# Altium integrated library Microchip Power Mgt Line Regulator.IntLib: 1066 symbols (part 24 of 26)
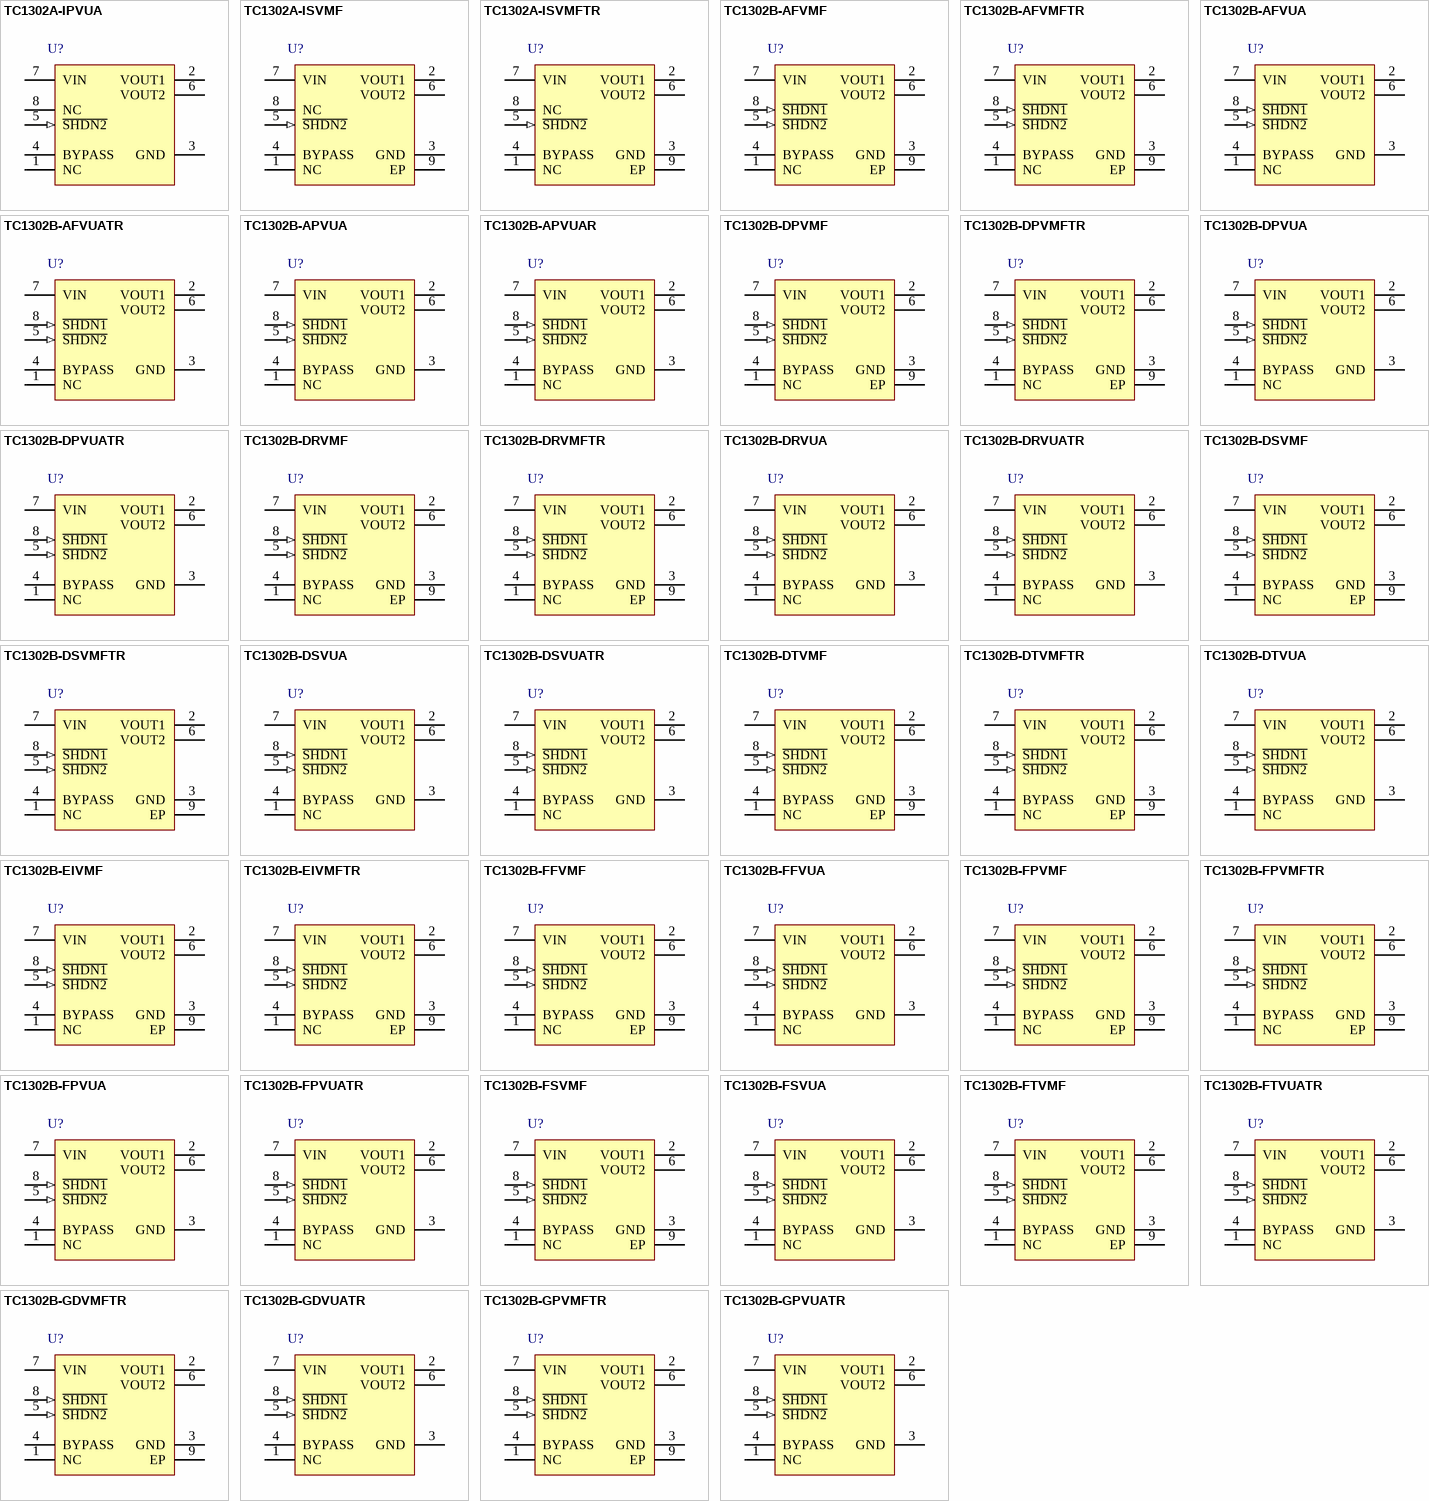
[diagram p49: symbols TC1302A-IPVUA to TC1302B-GPVUATR]

## TC1302B-DRVMFTR
designator U?
Low Quiescent Current Dual Output LDO, 8-Pin DFN, Extended Temperature, Tape and Reel; Published: 29-Jan-2009; DatasheetVersion: revB, Jan-2005; PackageVersion: revBB, Aug-2009; PackageReference: DFN-MF8; Publisher: Altium Limited; PackageDescription: 8-Lead Plastic Dual Flat, No Lead Package (MF) - 3x3x0.9mm Body [DFN]; ComponentLink1Description: Datasheet; ComponentLink1URL: http://ww1.microchip.com/downloads/en/DeviceDoc/21333b.pdf; ComponentLink2Description: Packaging Specification; ComponentLink2URL: http://www.microchip.com/stellent/groups/techpub_sg/documents/packagingspec/en012702.pdf; ComponentLink3Description: Microchip.com Home; ComponentLink3URL: http://www.microchip.com/
footprint DFN-MF8 (SON, 8-Leads, Body 3x3mm, Pitch 0.65mm, Microchip Recommended)
pins: 1 NC, 2 VOUT1 (power), 3 GND (power), 4 BYPASS, 5 ~{SHDN2} (in), 6 VOUT2 (power), 7 VIN (power), 8 ~{SHDN1} (in), 9 EP (power)

## TC1302B-DRVUA
designator U?
Low Quiescent Current Dual Output LDO, 8-Pin MSOP, Extended Temperature; Published: 29-Jan-2009; DatasheetVersion: revB, Jan-2005; PackageVersion: revBB, Aug-2009; PackageReference: MSOP-UA8; Publisher: Altium Limited; PackageDescription: 8-Lead Plastic Micro Small Outline Package (UA) [MSOP]; Code_JEDEC: MO-187-AA; ComponentLink1Description: Datasheet; ComponentLink1URL: http://ww1.microchip.com/downloads/en/DeviceDoc/21333b.pdf; ComponentLink2Description: Packaging Specification; ComponentLink2URL: http://www.microchip.com/stellent/groups/techpub_sg/documents/packagingspec/en012702.pdf; ComponentLink3Description: Microchip.com Home; ComponentLink3URL: http://www.microchip.com/
footprint MSOP-UA8_N (TSOP, 8-Leads, Body 3x3mm, Pitch 0.65mm, IPC Medium Density)
footprint MSOP-UA8_L (TSOP, 8-Leads, Body 3x3mm, Pitch 0.65mm, IPC High Density)
footprint MSOP-UA8_M (TSOP, 8-Leads, Body 3x3mm, Pitch 0.65mm, IPC Low Density)
pins: 1 NC, 2 VOUT1 (power), 3 GND (power), 4 BYPASS, 5 ~{SHDN2} (in), 6 VOUT2 (power), 7 VIN (power), 8 ~{SHDN1} (in)

## TC1302B-DRVUATR
designator U?
Low Quiescent Current Dual Output LDO, 8-Pin MSOP, Extended Temperature, Tape and Reel; Published: 29-Jan-2009; DatasheetVersion: revB, Jan-2005; PackageVersion: revBB, Aug-2009; PackageReference: MSOP-UA8; Publisher: Altium Limited; PackageDescription: 8-Lead Plastic Micro Small Outline Package (UA) [MSOP]; Code_JEDEC: MO-187-AA; ComponentLink1Description: Datasheet; ComponentLink1URL: http://ww1.microchip.com/downloads/en/DeviceDoc/21333b.pdf; ComponentLink2Description: Packaging Specification; ComponentLink2URL: http://www.microchip.com/stellent/groups/techpub_sg/documents/packagingspec/en012702.pdf; ComponentLink3Description: Microchip.com Home; ComponentLink3URL: http://www.microchip.com/
footprint MSOP-UA8_N (TSOP, 8-Leads, Body 3x3mm, Pitch 0.65mm, IPC Medium Density)
footprint MSOP-UA8_L (TSOP, 8-Leads, Body 3x3mm, Pitch 0.65mm, IPC High Density)
footprint MSOP-UA8_M (TSOP, 8-Leads, Body 3x3mm, Pitch 0.65mm, IPC Low Density)
pins: 1 NC, 2 VOUT1 (power), 3 GND (power), 4 BYPASS, 5 ~{SHDN2} (in), 6 VOUT2 (power), 7 VIN (power), 8 ~{SHDN1} (in)

## TC1302B-DSVMF
designator U?
Low Quiescent Current Dual Output LDO, 8-Pin DFN, Extended Temperature; Published: 29-Jan-2009; DatasheetVersion: revB, Jan-2005; PackageVersion: revBB, Aug-2009; PackageReference: DFN-MF8; Publisher: Altium Limited; PackageDescription: 8-Lead Plastic Dual Flat, No Lead Package (MF) - 3x3x0.9mm Body [DFN]; ComponentLink1Description: Datasheet; ComponentLink1URL: http://ww1.microchip.com/downloads/en/DeviceDoc/21333b.pdf; ComponentLink2Description: Packaging Specification; ComponentLink2URL: http://www.microchip.com/stellent/groups/techpub_sg/documents/packagingspec/en012702.pdf; ComponentLink3Description: Microchip.com Home; ComponentLink3URL: http://www.microchip.com/
footprint DFN-MF8 (SON, 8-Leads, Body 3x3mm, Pitch 0.65mm, Microchip Recommended)
pins: 1 NC, 2 VOUT1 (power), 3 GND (power), 4 BYPASS, 5 ~{SHDN2} (in), 6 VOUT2 (power), 7 VIN (power), 8 ~{SHDN1} (in), 9 EP (power)

## TC1302B-DSVMFTR
designator U?
Low Quiescent Current Dual Output LDO, 8-Pin DFN, Extended Temperature, Tape and Reel; Published: 29-Jan-2009; DatasheetVersion: revB, Jan-2005; PackageVersion: revBB, Aug-2009; PackageReference: DFN-MF8; Publisher: Altium Limited; PackageDescription: 8-Lead Plastic Dual Flat, No Lead Package (MF) - 3x3x0.9mm Body [DFN]; ComponentLink1Description: Datasheet; ComponentLink1URL: http://ww1.microchip.com/downloads/en/DeviceDoc/21333b.pdf; ComponentLink2Description: Packaging Specification; ComponentLink2URL: http://www.microchip.com/stellent/groups/techpub_sg/documents/packagingspec/en012702.pdf; ComponentLink3Description: Microchip.com Home; ComponentLink3URL: http://www.microchip.com/
footprint DFN-MF8 (SON, 8-Leads, Body 3x3mm, Pitch 0.65mm, Microchip Recommended)
pins: 1 NC, 2 VOUT1 (power), 3 GND (power), 4 BYPASS, 5 ~{SHDN2} (in), 6 VOUT2 (power), 7 VIN (power), 8 ~{SHDN1} (in), 9 EP (power)

## TC1302B-DSVUA
designator U?
Low Quiescent Current Dual Output LDO, 8-Pin MSOP, Extended Temperature; Published: 29-Jan-2009; DatasheetVersion: revB, Jan-2005; PackageVersion: revBB, Aug-2009; PackageReference: MSOP-UA8; Publisher: Altium Limited; PackageDescription: 8-Lead Plastic Micro Small Outline Package (UA) [MSOP]; Code_JEDEC: MO-187-AA; ComponentLink1Description: Datasheet; ComponentLink1URL: http://ww1.microchip.com/downloads/en/DeviceDoc/21333b.pdf; ComponentLink2Description: Packaging Specification; ComponentLink2URL: http://www.microchip.com/stellent/groups/techpub_sg/documents/packagingspec/en012702.pdf; ComponentLink3Description: Microchip.com Home; ComponentLink3URL: http://www.microchip.com/
footprint MSOP-UA8_N (TSOP, 8-Leads, Body 3x3mm, Pitch 0.65mm, IPC Medium Density)
footprint MSOP-UA8_L (TSOP, 8-Leads, Body 3x3mm, Pitch 0.65mm, IPC High Density)
footprint MSOP-UA8_M (TSOP, 8-Leads, Body 3x3mm, Pitch 0.65mm, IPC Low Density)
pins: 1 NC, 2 VOUT1 (power), 3 GND (power), 4 BYPASS, 5 ~{SHDN2} (in), 6 VOUT2 (power), 7 VIN (power), 8 ~{SHDN1} (in)

## TC1302B-DSVUATR
designator U?
Low Quiescent Current Dual Output LDO, 8-Pin MSOP, Extended Temperature, Tape and Reel; Published: 29-Jan-2009; DatasheetVersion: revB, Jan-2005; PackageVersion: revBB, Aug-2009; PackageReference: MSOP-UA8; Publisher: Altium Limited; PackageDescription: 8-Lead Plastic Micro Small Outline Package (UA) [MSOP]; Code_JEDEC: MO-187-AA; ComponentLink1Description: Datasheet; ComponentLink1URL: http://ww1.microchip.com/downloads/en/DeviceDoc/21333b.pdf; ComponentLink2Description: Packaging Specification; ComponentLink2URL: http://www.microchip.com/stellent/groups/techpub_sg/documents/packagingspec/en012702.pdf; ComponentLink3Description: Microchip.com Home; ComponentLink3URL: http://www.microchip.com/
footprint MSOP-UA8_N (TSOP, 8-Leads, Body 3x3mm, Pitch 0.65mm, IPC Medium Density)
footprint MSOP-UA8_L (TSOP, 8-Leads, Body 3x3mm, Pitch 0.65mm, IPC High Density)
footprint MSOP-UA8_M (TSOP, 8-Leads, Body 3x3mm, Pitch 0.65mm, IPC Low Density)
pins: 1 NC, 2 VOUT1 (power), 3 GND (power), 4 BYPASS, 5 ~{SHDN2} (in), 6 VOUT2 (power), 7 VIN (power), 8 ~{SHDN1} (in)

## TC1302B-DTVMF
designator U?
Low Quiescent Current Dual Output LDO, 8-Pin DFN, Extended Temperature; Published: 29-Jan-2009; DatasheetVersion: revB, Jan-2005; PackageVersion: revBB, Aug-2009; PackageReference: DFN-MF8; Publisher: Altium Limited; PackageDescription: 8-Lead Plastic Dual Flat, No Lead Package (MF) - 3x3x0.9mm Body [DFN]; Supplier 1: Digi-Key; Supplier Part Number 1: TC1302B-DTVMF-ND; ComponentLink1Description: Datasheet; ComponentLink1URL: http://ww1.microchip.com/downloads/en/DeviceDoc/21333b.pdf; ComponentLink2Description: Packaging Specification; ComponentLink2URL: http://www.microchip.com/stellent/groups/techpub_sg/documents/packagingspec/en012702.pdf; ComponentLink3Description: Microchip.com Home; ComponentLink3URL: http://www.microchip.com/
footprint DFN-MF8 (SON, 8-Leads, Body 3x3mm, Pitch 0.65mm, Microchip Recommended)
pins: 1 NC, 2 VOUT1 (power), 3 GND (power), 4 BYPASS, 5 ~{SHDN2} (in), 6 VOUT2 (power), 7 VIN (power), 8 ~{SHDN1} (in), 9 EP (power)

## TC1302B-DTVMFTR
designator U?
Low Quiescent Current Dual Output LDO, 8-Pin DFN, Extended Temperature, Tape and Reel; Published: 29-Jan-2009; DatasheetVersion: revB, Jan-2005; PackageVersion: revBB, Aug-2009; PackageReference: DFN-MF8; Publisher: Altium Limited; PackageDescription: 8-Lead Plastic Dual Flat, No Lead Package (MF) - 3x3x0.9mm Body [DFN]; Supplier 1: Digi-Key; Supplier Part Number 1: TC1302B-DTVMFTR-ND; ComponentLink1Description: Datasheet; ComponentLink1URL: http://ww1.microchip.com/downloads/en/DeviceDoc/21333b.pdf; ComponentLink2Description: Packaging Specification; ComponentLink2URL: http://www.microchip.com/stellent/groups/techpub_sg/documents/packagingspec/en012702.pdf; ComponentLink3Description: Microchip.com Home; ComponentLink3URL: http://www.microchip.com/
footprint DFN-MF8 (SON, 8-Leads, Body 3x3mm, Pitch 0.65mm, Microchip Recommended)
pins: 1 NC, 2 VOUT1 (power), 3 GND (power), 4 BYPASS, 5 ~{SHDN2} (in), 6 VOUT2 (power), 7 VIN (power), 8 ~{SHDN1} (in), 9 EP (power)

## TC1302B-DTVUA
designator U?
Low Quiescent Current Dual Output LDO, 8-Pin MSOP, Extended Temperature; Published: 29-Jan-2009; DatasheetVersion: revB, Jan-2005; PackageVersion: revBB, Aug-2009; PackageReference: MSOP-UA8; Publisher: Altium Limited; PackageDescription: 8-Lead Plastic Micro Small Outline Package (UA) [MSOP]; Supplier 1: Digi-Key; Supplier Part Number 1: TC1302B-DTVUA-ND; Code_JEDEC: MO-187-AA; ComponentLink1Description: Datasheet; ComponentLink1URL: http://ww1.microchip.com/downloads/en/DeviceDoc/21333b.pdf; ComponentLink2Description: Packaging Specification; ComponentLink2URL: http://www.microchip.com/stellent/groups/techpub_sg/documents/packagingspec/en012702.pdf; ComponentLink3Description: Microchip.com Home; ComponentLink3URL: http://www.microchip.com/
footprint MSOP-UA8_N (TSOP, 8-Leads, Body 3x3mm, Pitch 0.65mm, IPC Medium Density)
footprint MSOP-UA8_L (TSOP, 8-Leads, Body 3x3mm, Pitch 0.65mm, IPC High Density)
footprint MSOP-UA8_M (TSOP, 8-Leads, Body 3x3mm, Pitch 0.65mm, IPC Low Density)
pins: 1 NC, 2 VOUT1 (power), 3 GND (power), 4 BYPASS, 5 ~{SHDN2} (in), 6 VOUT2 (power), 7 VIN (power), 8 ~{SHDN1} (in)

## TC1302B-EIVMF
designator U?
Low Quiescent Current Dual Output LDO, 8-Pin DFN, Extended Temperature; Published: 29-Jan-2009; DatasheetVersion: revB, Jan-2005; PackageVersion: revBB, Aug-2009; PackageReference: DFN-MF8; Publisher: Altium Limited; PackageDescription: 8-Lead Plastic Dual Flat, No Lead Package (MF) - 3x3x0.9mm Body [DFN]; ComponentLink1Description: Datasheet; ComponentLink1URL: http://ww1.microchip.com/downloads/en/DeviceDoc/21333b.pdf; ComponentLink2Description: Packaging Specification; ComponentLink2URL: http://www.microchip.com/stellent/groups/techpub_sg/documents/packagingspec/en012702.pdf; ComponentLink3Description: Microchip.com Home; ComponentLink3URL: http://www.microchip.com/
footprint DFN-MF8 (SON, 8-Leads, Body 3x3mm, Pitch 0.65mm, Microchip Recommended)
pins: 1 NC, 2 VOUT1 (power), 3 GND (power), 4 BYPASS, 5 ~{SHDN2} (in), 6 VOUT2 (power), 7 VIN (power), 8 ~{SHDN1} (in), 9 EP (power)

## TC1302B-EIVMFTR
designator U?
Low Quiescent Current Dual Output LDO, 8-Pin DFN, Extended Temperature, Tape and Reel; Published: 29-Jan-2009; DatasheetVersion: revB, Jan-2005; PackageVersion: revBB, Aug-2009; PackageReference: DFN-MF8; Publisher: Altium Limited; PackageDescription: 8-Lead Plastic Dual Flat, No Lead Package (MF) - 3x3x0.9mm Body [DFN]; ComponentLink1Description: Datasheet; ComponentLink1URL: http://ww1.microchip.com/downloads/en/DeviceDoc/21333b.pdf; ComponentLink2Description: Packaging Specification; ComponentLink2URL: http://www.microchip.com/stellent/groups/techpub_sg/documents/packagingspec/en012702.pdf; ComponentLink3Description: Microchip.com Home; ComponentLink3URL: http://www.microchip.com/
footprint DFN-MF8 (SON, 8-Leads, Body 3x3mm, Pitch 0.65mm, Microchip Recommended)
pins: 1 NC, 2 VOUT1 (power), 3 GND (power), 4 BYPASS, 5 ~{SHDN2} (in), 6 VOUT2 (power), 7 VIN (power), 8 ~{SHDN1} (in), 9 EP (power)

## TC1302B-FFVMF
designator U?
Low Quiescent Current Dual Output LDO, 8-Pin DFN, Extended Temperature; Published: 29-Jan-2009; DatasheetVersion: revB, Jan-2005; PackageVersion: revBB, Aug-2009; PackageReference: DFN-MF8; Publisher: Altium Limited; PackageDescription: 8-Lead Plastic Dual Flat, No Lead Package (MF) - 3x3x0.9mm Body [DFN]; ComponentLink1Description: Datasheet; ComponentLink1URL: http://ww1.microchip.com/downloads/en/DeviceDoc/21333b.pdf; ComponentLink2Description: Packaging Specification; ComponentLink2URL: http://www.microchip.com/stellent/groups/techpub_sg/documents/packagingspec/en012702.pdf; ComponentLink3Description: Microchip.com Home; ComponentLink3URL: http://www.microchip.com/
footprint DFN-MF8 (SON, 8-Leads, Body 3x3mm, Pitch 0.65mm, Microchip Recommended)
pins: 1 NC, 2 VOUT1 (power), 3 GND (power), 4 BYPASS, 5 ~{SHDN2} (in), 6 VOUT2 (power), 7 VIN (power), 8 ~{SHDN1} (in), 9 EP (power)

## TC1302B-FFVUA
designator U?
Low Quiescent Current Dual Output LDO, 8-Pin MSOP, Extended Temperature; Published: 29-Jan-2009; DatasheetVersion: revB, Jan-2005; PackageVersion: revBB, Aug-2009; PackageReference: MSOP-UA8; Publisher: Altium Limited; PackageDescription: 8-Lead Plastic Micro Small Outline Package (UA) [MSOP]; Code_JEDEC: MO-187-AA; ComponentLink1Description: Datasheet; ComponentLink1URL: http://ww1.microchip.com/downloads/en/DeviceDoc/21333b.pdf; ComponentLink2Description: Packaging Specification; ComponentLink2URL: http://www.microchip.com/stellent/groups/techpub_sg/documents/packagingspec/en012702.pdf; ComponentLink3Description: Microchip.com Home; ComponentLink3URL: http://www.microchip.com/
footprint MSOP-UA8_N (TSOP, 8-Leads, Body 3x3mm, Pitch 0.65mm, IPC Medium Density)
footprint MSOP-UA8_L (TSOP, 8-Leads, Body 3x3mm, Pitch 0.65mm, IPC High Density)
footprint MSOP-UA8_M (TSOP, 8-Leads, Body 3x3mm, Pitch 0.65mm, IPC Low Density)
pins: 1 NC, 2 VOUT1 (power), 3 GND (power), 4 BYPASS, 5 ~{SHDN2} (in), 6 VOUT2 (power), 7 VIN (power), 8 ~{SHDN1} (in)

## TC1302B-FPVMF
designator U?
Low Quiescent Current Dual Output LDO, 8-Pin DFN, Extended Temperature; Published: 29-Jan-2009; DatasheetVersion: revB, Jan-2005; PackageVersion: revBB, Aug-2009; PackageReference: DFN-MF8; Publisher: Altium Limited; PackageDescription: 8-Lead Plastic Dual Flat, No Lead Package (MF) - 3x3x0.9mm Body [DFN]; ComponentLink1Description: Datasheet; ComponentLink1URL: http://ww1.microchip.com/downloads/en/DeviceDoc/21333b.pdf; ComponentLink2Description: Packaging Specification; ComponentLink2URL: http://www.microchip.com/stellent/groups/techpub_sg/documents/packagingspec/en012702.pdf; ComponentLink3Description: Microchip.com Home; ComponentLink3URL: http://www.microchip.com/
footprint DFN-MF8 (SON, 8-Leads, Body 3x3mm, Pitch 0.65mm, Microchip Recommended)
pins: 1 NC, 2 VOUT1 (power), 3 GND (power), 4 BYPASS, 5 ~{SHDN2} (in), 6 VOUT2 (power), 7 VIN (power), 8 ~{SHDN1} (in), 9 EP (power)

## TC1302B-FPVMFTR
designator U?
Low Quiescent Current Dual Output LDO, 8-Pin DFN, Extended Temperature, Tape and Reel; Published: 29-Jan-2009; DatasheetVersion: revB, Jan-2005; PackageVersion: revBB, Aug-2009; PackageReference: DFN-MF8; Publisher: Altium Limited; PackageDescription: 8-Lead Plastic Dual Flat, No Lead Package (MF) - 3x3x0.9mm Body [DFN]; ComponentLink1Description: Datasheet; ComponentLink1URL: http://ww1.microchip.com/downloads/en/DeviceDoc/21333b.pdf; ComponentLink2Description: Packaging Specification; ComponentLink2URL: http://www.microchip.com/stellent/groups/techpub_sg/documents/packagingspec/en012702.pdf; ComponentLink3Description: Microchip.com Home; ComponentLink3URL: http://www.microchip.com/
footprint DFN-MF8 (SON, 8-Leads, Body 3x3mm, Pitch 0.65mm, Microchip Recommended)
pins: 1 NC, 2 VOUT1 (power), 3 GND (power), 4 BYPASS, 5 ~{SHDN2} (in), 6 VOUT2 (power), 7 VIN (power), 8 ~{SHDN1} (in), 9 EP (power)

## TC1302B-FPVUA
designator U?
Low Quiescent Current Dual Output LDO, 8-Pin MSOP, Extended Temperature; Published: 29-Jan-2009; DatasheetVersion: revB, Jan-2005; PackageVersion: revBB, Aug-2009; PackageReference: MSOP-UA8; Publisher: Altium Limited; PackageDescription: 8-Lead Plastic Micro Small Outline Package (UA) [MSOP]; Code_JEDEC: MO-187-AA; ComponentLink1Description: Datasheet; ComponentLink1URL: http://ww1.microchip.com/downloads/en/DeviceDoc/21333b.pdf; ComponentLink2Description: Packaging Specification; ComponentLink2URL: http://www.microchip.com/stellent/groups/techpub_sg/documents/packagingspec/en012702.pdf; ComponentLink3Description: Microchip.com Home; ComponentLink3URL: http://www.microchip.com/
footprint MSOP-UA8_N (TSOP, 8-Leads, Body 3x3mm, Pitch 0.65mm, IPC Medium Density)
footprint MSOP-UA8_L (TSOP, 8-Leads, Body 3x3mm, Pitch 0.65mm, IPC High Density)
footprint MSOP-UA8_M (TSOP, 8-Leads, Body 3x3mm, Pitch 0.65mm, IPC Low Density)
pins: 1 NC, 2 VOUT1 (power), 3 GND (power), 4 BYPASS, 5 ~{SHDN2} (in), 6 VOUT2 (power), 7 VIN (power), 8 ~{SHDN1} (in)

## TC1302B-FPVUATR
designator U?
Low Quiescent Current Dual Output LDO, 8-Pin MSOP, Extended Temperature, Tape and Reel; Published: 29-Jan-2009; DatasheetVersion: revB, Jan-2005; PackageVersion: revBB, Aug-2009; PackageReference: MSOP-UA8; Publisher: Altium Limited; PackageDescription: 8-Lead Plastic Micro Small Outline Package (UA) [MSOP]; Code_JEDEC: MO-187-AA; ComponentLink1Description: Datasheet; ComponentLink1URL: http://ww1.microchip.com/downloads/en/DeviceDoc/21333b.pdf; ComponentLink2Description: Packaging Specification; ComponentLink2URL: http://www.microchip.com/stellent/groups/techpub_sg/documents/packagingspec/en012702.pdf; ComponentLink3Description: Microchip.com Home; ComponentLink3URL: http://www.microchip.com/
footprint MSOP-UA8_N (TSOP, 8-Leads, Body 3x3mm, Pitch 0.65mm, IPC Medium Density)
footprint MSOP-UA8_L (TSOP, 8-Leads, Body 3x3mm, Pitch 0.65mm, IPC High Density)
footprint MSOP-UA8_M (TSOP, 8-Leads, Body 3x3mm, Pitch 0.65mm, IPC Low Density)
pins: 1 NC, 2 VOUT1 (power), 3 GND (power), 4 BYPASS, 5 ~{SHDN2} (in), 6 VOUT2 (power), 7 VIN (power), 8 ~{SHDN1} (in)

## TC1302B-FSVMF
designator U?
Low Quiescent Current Dual Output LDO, 8-Pin DFN, Extended Temperature; Published: 29-Jan-2009; DatasheetVersion: revB, Jan-2005; PackageVersion: revBB, Aug-2009; PackageReference: DFN-MF8; Publisher: Altium Limited; PackageDescription: 8-Lead Plastic Dual Flat, No Lead Package (MF) - 3x3x0.9mm Body [DFN]; ComponentLink1Description: Datasheet; ComponentLink1URL: http://ww1.microchip.com/downloads/en/DeviceDoc/21333b.pdf; ComponentLink2Description: Packaging Specification; ComponentLink2URL: http://www.microchip.com/stellent/groups/techpub_sg/documents/packagingspec/en012702.pdf; ComponentLink3Description: Microchip.com Home; ComponentLink3URL: http://www.microchip.com/
footprint DFN-MF8 (SON, 8-Leads, Body 3x3mm, Pitch 0.65mm, Microchip Recommended)
pins: 1 NC, 2 VOUT1 (power), 3 GND (power), 4 BYPASS, 5 ~{SHDN2} (in), 6 VOUT2 (power), 7 VIN (power), 8 ~{SHDN1} (in), 9 EP (power)

## TC1302B-FSVUA
designator U?
Low Quiescent Current Dual Output LDO, 8-Pin MSOP, Extended Temperature; Published: 29-Jan-2009; DatasheetVersion: revB, Jan-2005; PackageVersion: revBB, Aug-2009; PackageReference: MSOP-UA8; Publisher: Altium Limited; PackageDescription: 8-Lead Plastic Micro Small Outline Package (UA) [MSOP]; Code_JEDEC: MO-187-AA; ComponentLink1Description: Datasheet; ComponentLink1URL: http://ww1.microchip.com/downloads/en/DeviceDoc/21333b.pdf; ComponentLink2Description: Packaging Specification; ComponentLink2URL: http://www.microchip.com/stellent/groups/techpub_sg/documents/packagingspec/en012702.pdf; ComponentLink3Description: Microchip.com Home; ComponentLink3URL: http://www.microchip.com/
footprint MSOP-UA8_N (TSOP, 8-Leads, Body 3x3mm, Pitch 0.65mm, IPC Medium Density)
footprint MSOP-UA8_L (TSOP, 8-Leads, Body 3x3mm, Pitch 0.65mm, IPC High Density)
footprint MSOP-UA8_M (TSOP, 8-Leads, Body 3x3mm, Pitch 0.65mm, IPC Low Density)
pins: 1 NC, 2 VOUT1 (power), 3 GND (power), 4 BYPASS, 5 ~{SHDN2} (in), 6 VOUT2 (power), 7 VIN (power), 8 ~{SHDN1} (in)

## TC1302B-FTVMF
designator U?
Low Quiescent Current Dual Output LDO, 8-Pin DFN, Extended Temperature; Published: 29-Jan-2009; DatasheetVersion: revB, Jan-2005; PackageVersion: revBB, Aug-2009; PackageReference: DFN-MF8; Publisher: Altium Limited; PackageDescription: 8-Lead Plastic Dual Flat, No Lead Package (MF) - 3x3x0.9mm Body [DFN]; ComponentLink1Description: Datasheet; ComponentLink1URL: http://ww1.microchip.com/downloads/en/DeviceDoc/21333b.pdf; ComponentLink2Description: Packaging Specification; ComponentLink2URL: http://www.microchip.com/stellent/groups/techpub_sg/documents/packagingspec/en012702.pdf; ComponentLink3Description: Microchip.com Home; ComponentLink3URL: http://www.microchip.com/
footprint DFN-MF8 (SON, 8-Leads, Body 3x3mm, Pitch 0.65mm, Microchip Recommended)
pins: 1 NC, 2 VOUT1 (power), 3 GND (power), 4 BYPASS, 5 ~{SHDN2} (in), 6 VOUT2 (power), 7 VIN (power), 8 ~{SHDN1} (in), 9 EP (power)

## TC1302B-FTVUATR
designator U?
Low Quiescent Current Dual Output LDO, 8-Pin MSOP, Extended Temperature, Tape and Reel; Published: 29-Jan-2009; DatasheetVersion: revB, Jan-2005; PackageVersion: revBB, Aug-2009; PackageReference: MSOP-UA8; Publisher: Altium Limited; PackageDescription: 8-Lead Plastic Micro Small Outline Package (UA) [MSOP]; Code_JEDEC: MO-187-AA; ComponentLink1Description: Datasheet; ComponentLink1URL: http://ww1.microchip.com/downloads/en/DeviceDoc/21333b.pdf; ComponentLink2Description: Packaging Specification; ComponentLink2URL: http://www.microchip.com/stellent/groups/techpub_sg/documents/packagingspec/en012702.pdf; ComponentLink3Description: Microchip.com Home; ComponentLink3URL: http://www.microchip.com/
footprint MSOP-UA8_N (TSOP, 8-Leads, Body 3x3mm, Pitch 0.65mm, IPC Medium Density)
footprint MSOP-UA8_L (TSOP, 8-Leads, Body 3x3mm, Pitch 0.65mm, IPC High Density)
footprint MSOP-UA8_M (TSOP, 8-Leads, Body 3x3mm, Pitch 0.65mm, IPC Low Density)
pins: 1 NC, 2 VOUT1 (power), 3 GND (power), 4 BYPASS, 5 ~{SHDN2} (in), 6 VOUT2 (power), 7 VIN (power), 8 ~{SHDN1} (in)

## TC1302B-GDVMFTR
designator U?
Low Quiescent Current Dual Output LDO, 8-Pin DFN, Extended Temperature, Tape and Reel; Published: 29-Jan-2009; DatasheetVersion: revB, Jan-2005; PackageVersion: revBB, Aug-2009; PackageReference: DFN-MF8; Publisher: Altium Limited; PackageDescription: 8-Lead Plastic Dual Flat, No Lead Package (MF) - 3x3x0.9mm Body [DFN]; ComponentLink1Description: Datasheet; ComponentLink1URL: http://ww1.microchip.com/downloads/en/DeviceDoc/21333b.pdf; ComponentLink2Description: Packaging Specification; ComponentLink2URL: http://www.microchip.com/stellent/groups/techpub_sg/documents/packagingspec/en012702.pdf; ComponentLink3Description: Microchip.com Home; ComponentLink3URL: http://www.microchip.com/
footprint DFN-MF8 (SON, 8-Leads, Body 3x3mm, Pitch 0.65mm, Microchip Recommended)
pins: 1 NC, 2 VOUT1 (power), 3 GND (power), 4 BYPASS, 5 ~{SHDN2} (in), 6 VOUT2 (power), 7 VIN (power), 8 ~{SHDN1} (in), 9 EP (power)

## TC1302B-GDVUATR
designator U?
Low Quiescent Current Dual Output LDO, 8-Pin MSOP, Extended Temperature, Tape and Reel; Published: 29-Jan-2009; DatasheetVersion: revB, Jan-2005; PackageVersion: revBB, Aug-2009; PackageReference: MSOP-UA8; Publisher: Altium Limited; PackageDescription: 8-Lead Plastic Micro Small Outline Package (UA) [MSOP]; Code_JEDEC: MO-187-AA; ComponentLink1Description: Datasheet; ComponentLink1URL: http://ww1.microchip.com/downloads/en/DeviceDoc/21333b.pdf; ComponentLink2Description: Packaging Specification; ComponentLink2URL: http://www.microchip.com/stellent/groups/techpub_sg/documents/packagingspec/en012702.pdf; ComponentLink3Description: Microchip.com Home; ComponentLink3URL: http://www.microchip.com/
footprint MSOP-UA8_N (TSOP, 8-Leads, Body 3x3mm, Pitch 0.65mm, IPC Medium Density)
footprint MSOP-UA8_L (TSOP, 8-Leads, Body 3x3mm, Pitch 0.65mm, IPC High Density)
footprint MSOP-UA8_M (TSOP, 8-Leads, Body 3x3mm, Pitch 0.65mm, IPC Low Density)
pins: 1 NC, 2 VOUT1 (power), 3 GND (power), 4 BYPASS, 5 ~{SHDN2} (in), 6 VOUT2 (power), 7 VIN (power), 8 ~{SHDN1} (in)

## TC1302B-GPVMFTR
designator U?
Low Quiescent Current Dual Output LDO, 8-Pin DFN, Extended Temperature, Tape and Reel; Published: 29-Jan-2009; DatasheetVersion: revB, Jan-2005; PackageVersion: revBB, Aug-2009; PackageReference: DFN-MF8; Publisher: Altium Limited; PackageDescription: 8-Lead Plastic Dual Flat, No Lead Package (MF) - 3x3x0.9mm Body [DFN]; ComponentLink1Description: Datasheet; ComponentLink1URL: http://ww1.microchip.com/downloads/en/DeviceDoc/21333b.pdf; ComponentLink2Description: Packaging Specification; ComponentLink2URL: http://www.microchip.com/stellent/groups/techpub_sg/documents/packagingspec/en012702.pdf; ComponentLink3Description: Microchip.com Home; ComponentLink3URL: http://www.microchip.com/
footprint DFN-MF8 (SON, 8-Leads, Body 3x3mm, Pitch 0.65mm, Microchip Recommended)
pins: 1 NC, 2 VOUT1 (power), 3 GND (power), 4 BYPASS, 5 ~{SHDN2} (in), 6 VOUT2 (power), 7 VIN (power), 8 ~{SHDN1} (in), 9 EP (power)

## TC1302B-GPVUATR
designator U?
Low Quiescent Current Dual Output LDO, 8-Pin MSOP, Extended Temperature, Tape and Reel; Published: 29-Jan-2009; DatasheetVersion: revB, Jan-2005; PackageVersion: revBB, Aug-2009; PackageReference: MSOP-UA8; Publisher: Altium Limited; PackageDescription: 8-Lead Plastic Micro Small Outline Package (UA) [MSOP]; Code_JEDEC: MO-187-AA; ComponentLink1Description: Datasheet; ComponentLink1URL: http://ww1.microchip.com/downloads/en/DeviceDoc/21333b.pdf; ComponentLink2Description: Packaging Specification; ComponentLink2URL: http://www.microchip.com/stellent/groups/techpub_sg/documents/packagingspec/en012702.pdf; ComponentLink3Description: Microchip.com Home; ComponentLink3URL: http://www.microchip.com/
footprint MSOP-UA8_N (TSOP, 8-Leads, Body 3x3mm, Pitch 0.65mm, IPC Medium Density)
footprint MSOP-UA8_L (TSOP, 8-Leads, Body 3x3mm, Pitch 0.65mm, IPC High Density)
footprint MSOP-UA8_M (TSOP, 8-Leads, Body 3x3mm, Pitch 0.65mm, IPC Low Density)
pins: 1 NC, 2 VOUT1 (power), 3 GND (power), 4 BYPASS, 5 ~{SHDN2} (in), 6 VOUT2 (power), 7 VIN (power), 8 ~{SHDN1} (in)

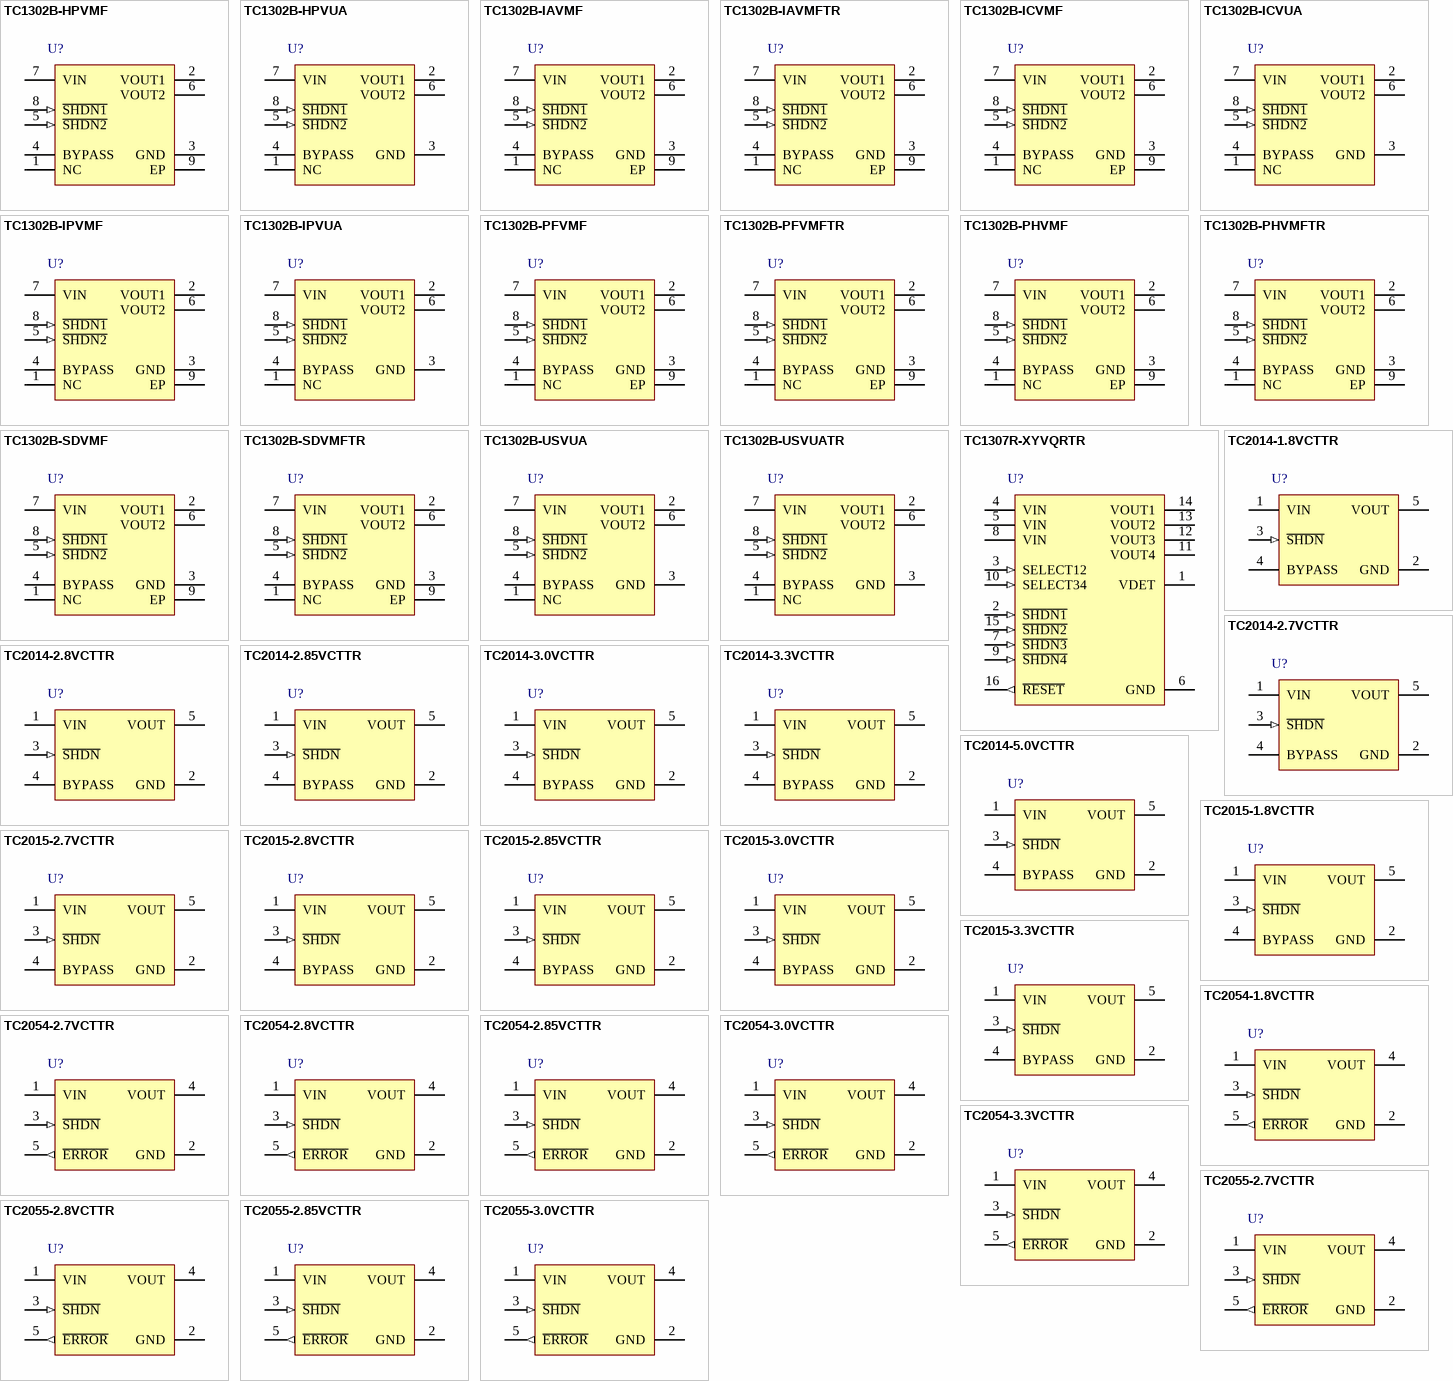
[diagram p25: symbols TC1302B-HPVMF to TC2055-3.0VCTTR]

## TC1302B-HPVMF
designator U?
Low Quiescent Current Dual Output LDO, 8-Pin DFN, Extended Temperature; Published: 29-Jan-2009; DatasheetVersion: revB, Jan-2005; PackageVersion: revBB, Aug-2009; PackageReference: DFN-MF8; Publisher: Altium Limited; PackageDescription: 8-Lead Plastic Dual Flat, No Lead Package (MF) - 3x3x0.9mm Body [DFN]; Supplier 1: Digi-Key; Supplier Part Number 1: TC1302B-HPVMF-ND; ComponentLink1Description: Datasheet; ComponentLink1URL: http://ww1.microchip.com/downloads/en/DeviceDoc/21333b.pdf; ComponentLink2Description: Packaging Specification; ComponentLink2URL: http://www.microchip.com/stellent/groups/techpub_sg/documents/packagingspec/en012702.pdf; ComponentLink3Description: Microchip.com Home; ComponentLink3URL: http://www.microchip.com/
footprint DFN-MF8 (SON, 8-Leads, Body 3x3mm, Pitch 0.65mm, Microchip Recommended)
pins: 1 NC, 2 VOUT1 (power), 3 GND (power), 4 BYPASS, 5 ~{SHDN2} (in), 6 VOUT2 (power), 7 VIN (power), 8 ~{SHDN1} (in), 9 EP (power)

## TC1302B-HPVUA
designator U?
Low Quiescent Current Dual Output LDO, 8-Pin MSOP, Extended Temperature; Published: 29-Jan-2009; DatasheetVersion: revB, Jan-2005; PackageVersion: revBB, Aug-2009; PackageReference: MSOP-UA8; Publisher: Altium Limited; PackageDescription: 8-Lead Plastic Micro Small Outline Package (UA) [MSOP]; Supplier 1: Digi-Key; Supplier Part Number 1: TC1302B-HPVUA-ND; Code_JEDEC: MO-187-AA; ComponentLink1Description: Datasheet; ComponentLink1URL: http://ww1.microchip.com/downloads/en/DeviceDoc/21333b.pdf; ComponentLink2Description: Packaging Specification; ComponentLink2URL: http://www.microchip.com/stellent/groups/techpub_sg/documents/packagingspec/en012702.pdf; ComponentLink3Description: Microchip.com Home; ComponentLink3URL: http://www.microchip.com/
footprint MSOP-UA8_N (TSOP, 8-Leads, Body 3x3mm, Pitch 0.65mm, IPC Medium Density)
footprint MSOP-UA8_L (TSOP, 8-Leads, Body 3x3mm, Pitch 0.65mm, IPC High Density)
footprint MSOP-UA8_M (TSOP, 8-Leads, Body 3x3mm, Pitch 0.65mm, IPC Low Density)
pins: 1 NC, 2 VOUT1 (power), 3 GND (power), 4 BYPASS, 5 ~{SHDN2} (in), 6 VOUT2 (power), 7 VIN (power), 8 ~{SHDN1} (in)

## TC1302B-IAVMF
designator U?
Low Quiescent Current Dual Output LDO, 8-Pin DFN, Extended Temperature; Published: 29-Jan-2009; DatasheetVersion: revB, Jan-2005; PackageVersion: revBB, Aug-2009; PackageReference: DFN-MF8; Publisher: Altium Limited; PackageDescription: 8-Lead Plastic Dual Flat, No Lead Package (MF) - 3x3x0.9mm Body [DFN]; ComponentLink1Description: Datasheet; ComponentLink1URL: http://ww1.microchip.com/downloads/en/DeviceDoc/21333b.pdf; ComponentLink2Description: Packaging Specification; ComponentLink2URL: http://www.microchip.com/stellent/groups/techpub_sg/documents/packagingspec/en012702.pdf; ComponentLink3Description: Microchip.com Home; ComponentLink3URL: http://www.microchip.com/
footprint DFN-MF8 (SON, 8-Leads, Body 3x3mm, Pitch 0.65mm, Microchip Recommended)
pins: 1 NC, 2 VOUT1 (power), 3 GND (power), 4 BYPASS, 5 ~{SHDN2} (in), 6 VOUT2 (power), 7 VIN (power), 8 ~{SHDN1} (in), 9 EP (power)

## TC1302B-IAVMFTR
designator U?
Low Quiescent Current Dual Output LDO, 8-Pin DFN, Extended Temperature, Tape and Reel; Published: 29-Jan-2009; DatasheetVersion: revB, Jan-2005; PackageVersion: revBB, Aug-2009; PackageReference: DFN-MF8; Publisher: Altium Limited; PackageDescription: 8-Lead Plastic Dual Flat, No Lead Package (MF) - 3x3x0.9mm Body [DFN]; ComponentLink1Description: Datasheet; ComponentLink1URL: http://ww1.microchip.com/downloads/en/DeviceDoc/21333b.pdf; ComponentLink2Description: Packaging Specification; ComponentLink2URL: http://www.microchip.com/stellent/groups/techpub_sg/documents/packagingspec/en012702.pdf; ComponentLink3Description: Microchip.com Home; ComponentLink3URL: http://www.microchip.com/
footprint DFN-MF8 (SON, 8-Leads, Body 3x3mm, Pitch 0.65mm, Microchip Recommended)
pins: 1 NC, 2 VOUT1 (power), 3 GND (power), 4 BYPASS, 5 ~{SHDN2} (in), 6 VOUT2 (power), 7 VIN (power), 8 ~{SHDN1} (in), 9 EP (power)

## TC1302B-ICVMF
designator U?
Low Quiescent Current Dual Output LDO, 8-Pin DFN, Extended Temperature; Published: 29-Jan-2009; DatasheetVersion: revB, Jan-2005; PackageVersion: revBB, Aug-2009; PackageReference: DFN-MF8; Publisher: Altium Limited; PackageDescription: 8-Lead Plastic Dual Flat, No Lead Package (MF) - 3x3x0.9mm Body [DFN]; ComponentLink1Description: Datasheet; ComponentLink1URL: http://ww1.microchip.com/downloads/en/DeviceDoc/21333b.pdf; ComponentLink2Description: Packaging Specification; ComponentLink2URL: http://www.microchip.com/stellent/groups/techpub_sg/documents/packagingspec/en012702.pdf; ComponentLink3Description: Microchip.com Home; ComponentLink3URL: http://www.microchip.com/
footprint DFN-MF8 (SON, 8-Leads, Body 3x3mm, Pitch 0.65mm, Microchip Recommended)
pins: 1 NC, 2 VOUT1 (power), 3 GND (power), 4 BYPASS, 5 ~{SHDN2} (in), 6 VOUT2 (power), 7 VIN (power), 8 ~{SHDN1} (in), 9 EP (power)

## TC1302B-ICVUA
designator U?
Low Quiescent Current Dual Output LDO, 8-Pin MSOP, Extended Temperature; Published: 29-Jan-2009; DatasheetVersion: revB, Jan-2005; PackageVersion: revBB, Aug-2009; PackageReference: MSOP-UA8; Publisher: Altium Limited; PackageDescription: 8-Lead Plastic Micro Small Outline Package (UA) [MSOP]; Code_JEDEC: MO-187-AA; ComponentLink1Description: Datasheet; ComponentLink1URL: http://ww1.microchip.com/downloads/en/DeviceDoc/21333b.pdf; ComponentLink2Description: Packaging Specification; ComponentLink2URL: http://www.microchip.com/stellent/groups/techpub_sg/documents/packagingspec/en012702.pdf; ComponentLink3Description: Microchip.com Home; ComponentLink3URL: http://www.microchip.com/
footprint MSOP-UA8_N (TSOP, 8-Leads, Body 3x3mm, Pitch 0.65mm, IPC Medium Density)
footprint MSOP-UA8_L (TSOP, 8-Leads, Body 3x3mm, Pitch 0.65mm, IPC High Density)
footprint MSOP-UA8_M (TSOP, 8-Leads, Body 3x3mm, Pitch 0.65mm, IPC Low Density)
pins: 1 NC, 2 VOUT1 (power), 3 GND (power), 4 BYPASS, 5 ~{SHDN2} (in), 6 VOUT2 (power), 7 VIN (power), 8 ~{SHDN1} (in)

## TC1302B-IPVMF
designator U?
Low Quiescent Current Dual Output LDO, 8-Pin DFN, Extended Temperature; Published: 29-Jan-2009; DatasheetVersion: revB, Jan-2005; PackageVersion: revBB, Aug-2009; PackageReference: DFN-MF8; Publisher: Altium Limited; PackageDescription: 8-Lead Plastic Dual Flat, No Lead Package (MF) - 3x3x0.9mm Body [DFN]; Supplier 1: Digi-Key; Supplier Part Number 1: TC1302B-IPVMF-ND; ComponentLink1Description: Datasheet; ComponentLink1URL: http://ww1.microchip.com/downloads/en/DeviceDoc/21333b.pdf; ComponentLink2Description: Packaging Specification; ComponentLink2URL: http://www.microchip.com/stellent/groups/techpub_sg/documents/packagingspec/en012702.pdf; ComponentLink3Description: Microchip.com Home; ComponentLink3URL: http://www.microchip.com/
footprint DFN-MF8 (SON, 8-Leads, Body 3x3mm, Pitch 0.65mm, Microchip Recommended)
pins: 1 NC, 2 VOUT1 (power), 3 GND (power), 4 BYPASS, 5 ~{SHDN2} (in), 6 VOUT2 (power), 7 VIN (power), 8 ~{SHDN1} (in), 9 EP (power)

## TC1302B-IPVUA
designator U?
Low Quiescent Current Dual Output LDO, 8-Pin MSOP, Extended Temperature; Published: 29-Jan-2009; DatasheetVersion: revB, Jan-2005; PackageVersion: revBB, Aug-2009; PackageReference: MSOP-UA8; Publisher: Altium Limited; PackageDescription: 8-Lead Plastic Micro Small Outline Package (UA) [MSOP]; Supplier 1: Digi-Key; Supplier Part Number 1: TC1302B-IPVUA-ND; Code_JEDEC: MO-187-AA; ComponentLink1Description: Datasheet; ComponentLink1URL: http://ww1.microchip.com/downloads/en/DeviceDoc/21333b.pdf; ComponentLink2Description: Packaging Specification; ComponentLink2URL: http://www.microchip.com/stellent/groups/techpub_sg/documents/packagingspec/en012702.pdf; ComponentLink3Description: Microchip.com Home; ComponentLink3URL: http://www.microchip.com/
footprint MSOP-UA8_N (TSOP, 8-Leads, Body 3x3mm, Pitch 0.65mm, IPC Medium Density)
footprint MSOP-UA8_L (TSOP, 8-Leads, Body 3x3mm, Pitch 0.65mm, IPC High Density)
footprint MSOP-UA8_M (TSOP, 8-Leads, Body 3x3mm, Pitch 0.65mm, IPC Low Density)
pins: 1 NC, 2 VOUT1 (power), 3 GND (power), 4 BYPASS, 5 ~{SHDN2} (in), 6 VOUT2 (power), 7 VIN (power), 8 ~{SHDN1} (in)

## TC1302B-PFVMF
designator U?
Low Quiescent Current Dual Output LDO, 8-Pin DFN, Extended Temperature; Published: 29-Jan-2009; DatasheetVersion: revB, Jan-2005; PackageVersion: revBB, Aug-2009; PackageReference: DFN-MF8; Publisher: Altium Limited; PackageDescription: 8-Lead Plastic Dual Flat, No Lead Package (MF) - 3x3x0.9mm Body [DFN]; ComponentLink1Description: Datasheet; ComponentLink1URL: http://ww1.microchip.com/downloads/en/DeviceDoc/21333b.pdf; ComponentLink2Description: Packaging Specification; ComponentLink2URL: http://www.microchip.com/stellent/groups/techpub_sg/documents/packagingspec/en012702.pdf; ComponentLink3Description: Microchip.com Home; ComponentLink3URL: http://www.microchip.com/
footprint DFN-MF8 (SON, 8-Leads, Body 3x3mm, Pitch 0.65mm, Microchip Recommended)
pins: 1 NC, 2 VOUT1 (power), 3 GND (power), 4 BYPASS, 5 ~{SHDN2} (in), 6 VOUT2 (power), 7 VIN (power), 8 ~{SHDN1} (in), 9 EP (power)

## TC1302B-PFVMFTR
designator U?
Low Quiescent Current Dual Output LDO, 8-Pin DFN, Extended Temperature, Tape and Reel; Published: 29-Jan-2009; DatasheetVersion: revB, Jan-2005; PackageVersion: revBB, Aug-2009; PackageReference: DFN-MF8; Publisher: Altium Limited; PackageDescription: 8-Lead Plastic Dual Flat, No Lead Package (MF) - 3x3x0.9mm Body [DFN]; ComponentLink1Description: Datasheet; ComponentLink1URL: http://ww1.microchip.com/downloads/en/DeviceDoc/21333b.pdf; ComponentLink2Description: Packaging Specification; ComponentLink2URL: http://www.microchip.com/stellent/groups/techpub_sg/documents/packagingspec/en012702.pdf; ComponentLink3Description: Microchip.com Home; ComponentLink3URL: http://www.microchip.com/
footprint DFN-MF8 (SON, 8-Leads, Body 3x3mm, Pitch 0.65mm, Microchip Recommended)
pins: 1 NC, 2 VOUT1 (power), 3 GND (power), 4 BYPASS, 5 ~{SHDN2} (in), 6 VOUT2 (power), 7 VIN (power), 8 ~{SHDN1} (in), 9 EP (power)

## TC1302B-PHVMF
designator U?
Low Quiescent Current Dual Output LDO, 8-Pin DFN, Extended Temperature; Published: 29-Jan-2009; DatasheetVersion: revB, Jan-2005; PackageVersion: revBB, Aug-2009; PackageReference: DFN-MF8; Publisher: Altium Limited; PackageDescription: 8-Lead Plastic Dual Flat, No Lead Package (MF) - 3x3x0.9mm Body [DFN]; ComponentLink1Description: Datasheet; ComponentLink1URL: http://ww1.microchip.com/downloads/en/DeviceDoc/21333b.pdf; ComponentLink2Description: Packaging Specification; ComponentLink2URL: http://www.microchip.com/stellent/groups/techpub_sg/documents/packagingspec/en012702.pdf; ComponentLink3Description: Microchip.com Home; ComponentLink3URL: http://www.microchip.com/
footprint DFN-MF8 (SON, 8-Leads, Body 3x3mm, Pitch 0.65mm, Microchip Recommended)
pins: 1 NC, 2 VOUT1 (power), 3 GND (power), 4 BYPASS, 5 ~{SHDN2} (in), 6 VOUT2 (power), 7 VIN (power), 8 ~{SHDN1} (in), 9 EP (power)

## TC1302B-PHVMFTR
designator U?
Low Quiescent Current Dual Output LDO, 8-Pin DFN, Extended Temperature, Tape and Reel; Published: 29-Jan-2009; DatasheetVersion: revB, Jan-2005; PackageVersion: revBB, Aug-2009; PackageReference: DFN-MF8; Publisher: Altium Limited; PackageDescription: 8-Lead Plastic Dual Flat, No Lead Package (MF) - 3x3x0.9mm Body [DFN]; ComponentLink1Description: Datasheet; ComponentLink1URL: http://ww1.microchip.com/downloads/en/DeviceDoc/21333b.pdf; ComponentLink2Description: Packaging Specification; ComponentLink2URL: http://www.microchip.com/stellent/groups/techpub_sg/documents/packagingspec/en012702.pdf; ComponentLink3Description: Microchip.com Home; ComponentLink3URL: http://www.microchip.com/
footprint DFN-MF8 (SON, 8-Leads, Body 3x3mm, Pitch 0.65mm, Microchip Recommended)
pins: 1 NC, 2 VOUT1 (power), 3 GND (power), 4 BYPASS, 5 ~{SHDN2} (in), 6 VOUT2 (power), 7 VIN (power), 8 ~{SHDN1} (in), 9 EP (power)

## TC1302B-SDVMF
designator U?
Low Quiescent Current Dual Output LDO, 8-Pin DFN, Extended Temperature; Published: 29-Jan-2009; DatasheetVersion: revB, Jan-2005; PackageVersion: revBB, Aug-2009; PackageReference: DFN-MF8; Publisher: Altium Limited; PackageDescription: 8-Lead Plastic Dual Flat, No Lead Package (MF) - 3x3x0.9mm Body [DFN]; ComponentLink1Description: Datasheet; ComponentLink1URL: http://ww1.microchip.com/downloads/en/DeviceDoc/21333b.pdf; ComponentLink2Description: Packaging Specification; ComponentLink2URL: http://www.microchip.com/stellent/groups/techpub_sg/documents/packagingspec/en012702.pdf; ComponentLink3Description: Microchip.com Home; ComponentLink3URL: http://www.microchip.com/
footprint DFN-MF8 (SON, 8-Leads, Body 3x3mm, Pitch 0.65mm, Microchip Recommended)
pins: 1 NC, 2 VOUT1 (power), 3 GND (power), 4 BYPASS, 5 ~{SHDN2} (in), 6 VOUT2 (power), 7 VIN (power), 8 ~{SHDN1} (in), 9 EP (power)

## TC1302B-SDVMFTR
designator U?
Low Quiescent Current Dual Output LDO, 8-Pin DFN, Extended Temperature, Tape and Reel; Published: 29-Jan-2009; DatasheetVersion: revB, Jan-2005; PackageVersion: revBB, Aug-2009; PackageReference: DFN-MF8; Publisher: Altium Limited; PackageDescription: 8-Lead Plastic Dual Flat, No Lead Package (MF) - 3x3x0.9mm Body [DFN]; ComponentLink1Description: Datasheet; ComponentLink1URL: http://ww1.microchip.com/downloads/en/DeviceDoc/21333b.pdf; ComponentLink2Description: Packaging Specification; ComponentLink2URL: http://www.microchip.com/stellent/groups/techpub_sg/documents/packagingspec/en012702.pdf; ComponentLink3Description: Microchip.com Home; ComponentLink3URL: http://www.microchip.com/
footprint DFN-MF8 (SON, 8-Leads, Body 3x3mm, Pitch 0.65mm, Microchip Recommended)
pins: 1 NC, 2 VOUT1 (power), 3 GND (power), 4 BYPASS, 5 ~{SHDN2} (in), 6 VOUT2 (power), 7 VIN (power), 8 ~{SHDN1} (in), 9 EP (power)

## TC1302B-USVUA
designator U?
Low Quiescent Current Dual Output LDO, 8-Pin MSOP, Extended Temperature; Published: 29-Jan-2009; DatasheetVersion: revB, Jan-2005; PackageVersion: revBB, Aug-2009; PackageReference: MSOP-UA8; Publisher: Altium Limited; PackageDescription: 8-Lead Plastic Micro Small Outline Package (UA) [MSOP]; Code_JEDEC: MO-187-AA; ComponentLink1Description: Datasheet; ComponentLink1URL: http://ww1.microchip.com/downloads/en/DeviceDoc/21333b.pdf; ComponentLink2Description: Packaging Specification; ComponentLink2URL: http://www.microchip.com/stellent/groups/techpub_sg/documents/packagingspec/en012702.pdf; ComponentLink3Description: Microchip.com Home; ComponentLink3URL: http://www.microchip.com/
footprint MSOP-UA8_N (TSOP, 8-Leads, Body 3x3mm, Pitch 0.65mm, IPC Medium Density)
footprint MSOP-UA8_L (TSOP, 8-Leads, Body 3x3mm, Pitch 0.65mm, IPC High Density)
footprint MSOP-UA8_M (TSOP, 8-Leads, Body 3x3mm, Pitch 0.65mm, IPC Low Density)
pins: 1 NC, 2 VOUT1 (power), 3 GND (power), 4 BYPASS, 5 ~{SHDN2} (in), 6 VOUT2 (power), 7 VIN (power), 8 ~{SHDN1} (in)

## TC1302B-USVUATR
designator U?
Low Quiescent Current Dual Output LDO, 8-Pin MSOP, Extended Temperature, Tape and Reel; Published: 29-Jan-2009; DatasheetVersion: revB, Jan-2005; PackageVersion: revBB, Aug-2009; PackageReference: MSOP-UA8; Publisher: Altium Limited; PackageDescription: 8-Lead Plastic Micro Small Outline Package (UA) [MSOP]; Code_JEDEC: MO-187-AA; ComponentLink1Description: Datasheet; ComponentLink1URL: http://ww1.microchip.com/downloads/en/DeviceDoc/21333b.pdf; ComponentLink2Description: Packaging Specification; ComponentLink2URL: http://www.microchip.com/stellent/groups/techpub_sg/documents/packagingspec/en012702.pdf; ComponentLink3Description: Microchip.com Home; ComponentLink3URL: http://www.microchip.com/
footprint MSOP-UA8_N (TSOP, 8-Leads, Body 3x3mm, Pitch 0.65mm, IPC Medium Density)
footprint MSOP-UA8_L (TSOP, 8-Leads, Body 3x3mm, Pitch 0.65mm, IPC High Density)
footprint MSOP-UA8_M (TSOP, 8-Leads, Body 3x3mm, Pitch 0.65mm, IPC Low Density)
pins: 1 NC, 2 VOUT1 (power), 3 GND (power), 4 BYPASS, 5 ~{SHDN2} (in), 6 VOUT2 (power), 7 VIN (power), 8 ~{SHDN1} (in)

## TC1307R-XYVQRTR
designator U?
Four-Channel CMOS LDO with Select Mode, Shutdown and Independent Reset, 16-Pin QSOP, Extended Temperature, Tape and Reel; Published: 29-Jan-2009; DatasheetVersion: revA, 2002; PackageVersion: revBB, Aug-2009; PackageReference: QSOP-QR16; Publisher: Altium Limited; PackageDescription: 16-Lead Plastic Shrink Small Outline Narrow Body (QR) - .150" Body [QSOP]; Supplier 1: Digi-Key; Supplier Part Number 1: TC1307R-XYVQRTR-ND; Code_JEDEC: MO-137-AB; Code_IPC: SOP635P600-16; ComponentLink1Description: Datasheet; ComponentLink1URL: http://ww1.microchip.com/downloads/en/DeviceDoc/21702a.pdf; ComponentLink2Description: Packaging Specification; ComponentLink2URL: http://www.microchip.com/stellent/groups/techpub_sg/documents/packagingspec/en012702.pdf; ComponentLink3Description: Microchip.com Home; ComponentLink3URL: http://www.microchip.com/
footprint QSOP-QR16_N (SOP, 16-Leads, Body 4.9x3.9mm, Pitch 0.635mm, IPC Medium Density)
footprint QSOP-QR16_L (SOP, 16-Leads, Body 4.9x3.9mm, Pitch 0.635mm, IPC High Density)
footprint QSOP-QR16_M (SOP, 16-Leads, Body 4.9x3.9mm, Pitch 0.635mm, IPC Low Density)
pins: 1 VDET (power), 2 ~{SHDN1} (in), 3 SELECT12 (in), 4 VIN (power), 5 VIN (power), 6 GND (power), 7 ~{SHDN3} (in), 8 VIN (power), 9 ~{SHDN4} (in), 10 SELECT34 (in), 11 VOUT4 (power), 12 VOUT3 (power), 13 VOUT2 (power), 14 VOUT1 (power), 15 ~{SHDN2} (in), 16 ~{RESET} (out)

## TC2014-1.8VCTTR
designator U?
50 mA, 100 mA, 150 mA CMOS LDOs with Shutdown and Reference Bypass, 5-Pin SOT-23, Extended Temperature, Tape and Reel; Published: 29-Jan-2009; DatasheetVersion: revE, May-2006; PackageVersion: revBB, Aug-2009; PackageReference: SOT-23-CT5; Publisher: Altium Limited; PackageDescription: 5-Lead Plastic Small Outline Transistor (CT) [SOT-23]; Supplier 1: Digi-Key; Supplier Part Number 1: TC2014-1.8VCTTR-ND; Code_IPC: SOT23-5; ComponentLink1Description: Datasheet; ComponentLink1URL: http://ww1.microchip.com/downloads/en/DeviceDoc/21662e.pdf; ComponentLink2Description: Packaging Specification; ComponentLink2URL: http://www.microchip.com/stellent/groups/techpub_sg/documents/packagingspec/en012702.pdf; ComponentLink3Description: Microchip.com Home; ComponentLink3URL: http://www.microchip.com/
footprint SOT-23-CT5_N (SOT23, 5-Leads, Body 2.9x1.6mm, Pitch 0.95mm, Lead Span 2.7mm, IPC Medium Density)
footprint SOT-23-CT5_L (SOT23, 5-Leads, Body 2.9x1.6mm, Pitch 0.95mm, Lead Span 2.7mm, IPC High Density)
footprint SOT-23-CT5_M (SOT23, 5-Leads, Body 2.9x1.6mm, Pitch 0.95mm, Lead Span 2.7mm, IPC Low Density)
pins: 1 VIN (power), 2 GND (power), 3 ~{SHDN} (in), 4 BYPASS, 5 VOUT (power)

## TC2014-2.7VCTTR
designator U?
50 mA, 100 mA, 150 mA CMOS LDOs with Shutdown and Reference Bypass, 5-Pin SOT-23, Extended Temperature, Tape and Reel; Published: 29-Jan-2009; DatasheetVersion: revE, May-2006; PackageVersion: revBB, Aug-2009; PackageReference: SOT-23-CT5; Publisher: Altium Limited; PackageDescription: 5-Lead Plastic Small Outline Transistor (CT) [SOT-23]; Supplier 1: Digi-Key; Supplier Part Number 1: TC2014-2.7VCTTR-ND; Code_IPC: SOT23-5; ComponentLink1Description: Datasheet; ComponentLink1URL: http://ww1.microchip.com/downloads/en/DeviceDoc/21662e.pdf; ComponentLink2Description: Packaging Specification; ComponentLink2URL: http://www.microchip.com/stellent/groups/techpub_sg/documents/packagingspec/en012702.pdf; ComponentLink3Description: Microchip.com Home; ComponentLink3URL: http://www.microchip.com/
footprint SOT-23-CT5_N (SOT23, 5-Leads, Body 2.9x1.6mm, Pitch 0.95mm, Lead Span 2.7mm, IPC Medium Density)
footprint SOT-23-CT5_L (SOT23, 5-Leads, Body 2.9x1.6mm, Pitch 0.95mm, Lead Span 2.7mm, IPC High Density)
footprint SOT-23-CT5_M (SOT23, 5-Leads, Body 2.9x1.6mm, Pitch 0.95mm, Lead Span 2.7mm, IPC Low Density)
pins: 1 VIN (power), 2 GND (power), 3 ~{SHDN} (in), 4 BYPASS, 5 VOUT (power)

## TC2014-2.8VCTTR
designator U?
50 mA, 100 mA, 150 mA CMOS LDOs with Shutdown and Reference Bypass, 5-Pin SOT-23, Extended Temperature, Tape and Reel; Published: 29-Jan-2009; DatasheetVersion: revE, May-2006; PackageVersion: revBB, Aug-2009; PackageReference: SOT-23-CT5; Publisher: Altium Limited; PackageDescription: 5-Lead Plastic Small Outline Transistor (CT) [SOT-23]; Supplier 1: Digi-Key; Supplier Part Number 1: TC2014-2.8VCTTR-ND; Code_IPC: SOT23-5; ComponentLink1Description: Datasheet; ComponentLink1URL: http://ww1.microchip.com/downloads/en/DeviceDoc/21662e.pdf; ComponentLink2Description: Packaging Specification; ComponentLink2URL: http://www.microchip.com/stellent/groups/techpub_sg/documents/packagingspec/en012702.pdf; ComponentLink3Description: Microchip.com Home; ComponentLink3URL: http://www.microchip.com/
footprint SOT-23-CT5_N (SOT23, 5-Leads, Body 2.9x1.6mm, Pitch 0.95mm, Lead Span 2.7mm, IPC Medium Density)
footprint SOT-23-CT5_L (SOT23, 5-Leads, Body 2.9x1.6mm, Pitch 0.95mm, Lead Span 2.7mm, IPC High Density)
footprint SOT-23-CT5_M (SOT23, 5-Leads, Body 2.9x1.6mm, Pitch 0.95mm, Lead Span 2.7mm, IPC Low Density)
pins: 1 VIN (power), 2 GND (power), 3 ~{SHDN} (in), 4 BYPASS, 5 VOUT (power)

## TC2014-2.85VCTTR
designator U?
50 mA, 100 mA, 150 mA CMOS LDOs with Shutdown and Reference Bypass, 5-Pin SOT-23, Extended Temperature, Tape and Reel; Published: 29-Jan-2009; DatasheetVersion: revE, May-2006; PackageVersion: revBB, Aug-2009; PackageReference: SOT-23-CT5; Publisher: Altium Limited; PackageDescription: 5-Lead Plastic Small Outline Transistor (CT) [SOT-23]; Supplier 1: Digi-Key; Supplier Part Number 1: TC2014-2.85VCTTR-ND; Code_IPC: SOT23-5; ComponentLink1Description: Datasheet; ComponentLink1URL: http://ww1.microchip.com/downloads/en/DeviceDoc/21662e.pdf; ComponentLink2Description: Packaging Specification; ComponentLink2URL: http://www.microchip.com/stellent/groups/techpub_sg/documents/packagingspec/en012702.pdf; ComponentLink3Description: Microchip.com Home; ComponentLink3URL: http://www.microchip.com/
footprint SOT-23-CT5_N (SOT23, 5-Leads, Body 2.9x1.6mm, Pitch 0.95mm, Lead Span 2.7mm, IPC Medium Density)
footprint SOT-23-CT5_L (SOT23, 5-Leads, Body 2.9x1.6mm, Pitch 0.95mm, Lead Span 2.7mm, IPC High Density)
footprint SOT-23-CT5_M (SOT23, 5-Leads, Body 2.9x1.6mm, Pitch 0.95mm, Lead Span 2.7mm, IPC Low Density)
pins: 1 VIN (power), 2 GND (power), 3 ~{SHDN} (in), 4 BYPASS, 5 VOUT (power)

## TC2014-3.0VCTTR
designator U?
50 mA, 100 mA, 150 mA CMOS LDOs with Shutdown and Reference Bypass, 5-Pin SOT-23, Extended Temperature, Tape and Reel; Published: 29-Jan-2009; DatasheetVersion: revE, May-2006; PackageVersion: revBB, Aug-2009; PackageReference: SOT-23-CT5; Publisher: Altium Limited; PackageDescription: 5-Lead Plastic Small Outline Transistor (CT) [SOT-23]; Supplier 1: Digi-Key; Supplier Part Number 1: TC2014-3.0VCTTR-ND; Code_IPC: SOT23-5; ComponentLink1Description: Datasheet; ComponentLink1URL: http://ww1.microchip.com/downloads/en/DeviceDoc/21662e.pdf; ComponentLink2Description: Packaging Specification; ComponentLink2URL: http://www.microchip.com/stellent/groups/techpub_sg/documents/packagingspec/en012702.pdf; ComponentLink3Description: Microchip.com Home; ComponentLink3URL: http://www.microchip.com/
footprint SOT-23-CT5_N (SOT23, 5-Leads, Body 2.9x1.6mm, Pitch 0.95mm, Lead Span 2.7mm, IPC Medium Density)
footprint SOT-23-CT5_L (SOT23, 5-Leads, Body 2.9x1.6mm, Pitch 0.95mm, Lead Span 2.7mm, IPC High Density)
footprint SOT-23-CT5_M (SOT23, 5-Leads, Body 2.9x1.6mm, Pitch 0.95mm, Lead Span 2.7mm, IPC Low Density)
pins: 1 VIN (power), 2 GND (power), 3 ~{SHDN} (in), 4 BYPASS, 5 VOUT (power)